# Altium schematic symbol library PCB_RP2040.SCHLIB: 17 symbols
Pins are listed as number, name and electrical type; pins without a type are passive.

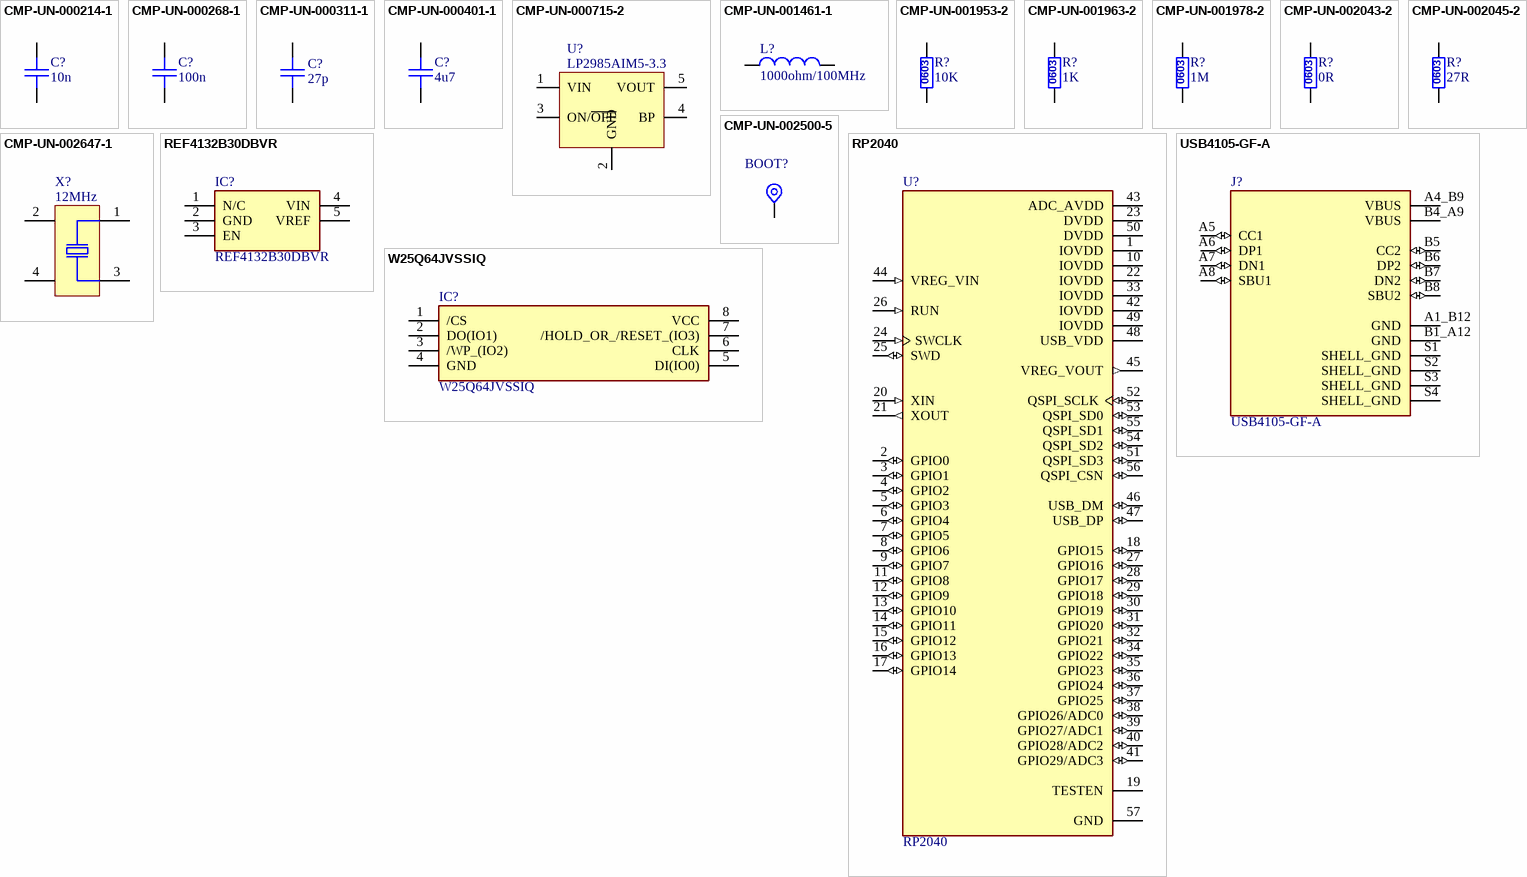
[diagram p0: symbols CMP-UN-000214-1 to W25Q64JVSSIQ]

## CMP-UN-000214-1
designator C?, comment 10n
Ceramic Capacitor X7R; Manufacturer: VISHAY; Part Number: 10n/50V X7R C0603; Manufacturer: Kyocera AVX; Manufacturer Part Number: 06035C103JAT2A; SMD/THD: SMD; Main: Capacitors; Status: A; Stock number: 10002497; Category: Capacitors CERA SMD; Value: 10n; Manufacturer Part Number: 10n/50V X7R C0603; Component Type: Capacitors
footprint C0603 (Chip Capacitor 0603)
footprint C0603M
pins: 1, 2

## CMP-UN-000268-1
designator C?, comment 100n
Ceramic Capacitor X7R; Manufacturer: VISHAY; Part Number: 100n/16V X7R C0603; Manufacturer: KEMET; Manufacturer Part Number: C0603C104K4RACAUTO; Main: Capacitors; SMD/THD: SMD; Value: 100n/16V; Stock number: 10003450; Category: Capacitors CERA SMD; Status: X; Manufacturer Part Number: 100n/16V X7R C0603; Component Type: Capacitors
footprint C0603 (Chip Capacitor 0603)
footprint C0603M
pins: 1, 2

## CMP-UN-000311-1
designator C?, comment 27p
Ceramic Capacitor NPO; Manufacturer: VISHAY; Part Number: 22p/50V NPO C0603; Manufacturer: Multicomp; Manufacturer Part Number: MC0603N220J500CT; Main: Capacitors; SMD/THD: SMD; Value: 22p; Stock number: 10004609; Status: A; Category: Capacitors CERA SMD; Manufacturer Part Number: 22p/50V NPO C0603; Component Type: Capacitors
footprint C0603 (Chip Capacitor 0603)
footprint C0603M
pins: 1, 2

## CMP-UN-000401-1
designator C?, comment 4u7
Ceramic Capacitor X5R; Part Number: GRM188R60J475KE19J; Manufacturer: Murata; Manufacturer Part Number: GRM188R60J475KE19D; Value: 4u7/6,3V; SMD/THD: SMD; Main: Capacitors; Category: Capacitors CERA SMD; Stock number: 10006168; Status: T; ComponentLink1URL: http://datasheet.octopart.com/GRM188R60J475KE19J-Murata-datasheet-14401031.pdf; ComponentLink1Description: Datasheet; Manufacturer Part Number: GRM188R60J475KE19J; Component Type: Capacitors
footprint C0603 (Chip Capacitor 0603)
footprint C0603M
pins: 1, 2

## CMP-UN-000715-2
designator U?, comment LP2985AIM5-3.3
150-mA , Low-Dropout Regulator; Manufacturer: Texas Instruments; Part Number: LP2985AIM5-3.3/NOPB; SMD/THD: SMD; Main: IC's; Value: LP2985AIM5-3.3; Category: Voltage Regulators; Stock number: 10006099; ComponentLink1Description: Datasheet; Status: N; ComponentLink1URL: http://www.farnell.com/datasheets/1972829.pdf; Manufacturer Part Number: LP2985AIM5-3.3/NOPB; Component Type: IC's
footprint SOT23-5 (0,95 rozteè, 0,4mm mezera, 2.9x1,6mm)
pins: 1 VIN (power), 2 GND (power), 3 ON/~{OFF}, 4 BP, 5 VOUT (power)

## CMP-UN-001461-1
designator L?, comment 1000ohm/100MHz
Ferrite Bead (10 to 200MHz) 0.5A; Manufacturer: TDK; Part Number: MMZ2012R102A; Main: Inductors; SMD/THD: SMD; ComponentLink1Description: Datasheet; Category: Ferrite Beads; ComponentLink1URL: http://www.farnell.com/datasheets/84901.pdf; Value: 1000ohm/100MHz; Status: A; Stock number: 10005111; Manufacturer Part Number: MMZ2012R102A; Component Type: Inductors
footprint L0805M (Chip inductor 0805)
pins: 1, 2

## CMP-UN-001953-2
designator R?, comment 10K
Resistor 1%, 0.1W, 75V; Part Number: 10K R0603; Manufacturer: VISHAY; Manufacturer Part Number: CRCW060310K0FKEA; Manufacturer: Vishay Semiconductors; Manufacturer Part Number: CRCW060310K0FKEAC; Main: Resistors; SMD/THD: SMD; Stock number: 10004622; Value: 10K; Category: Resistors SMD; Status: A; Manufacturer Part Number: 10K R0603; Manufacturer: Vishay; Component Type: Resistors
footprint R0603 (Chip Resistor 0603)
pins: 1, 2
text: 0603

## CMP-UN-001963-2
designator R?, comment 1K
Resistor 1%, 0.1W, 75V; Manufacturer: VISHAY; Part Number: 1K R0603; Manufacturer: Vishay Dale; Manufacturer Part Number: CRCW06031K00FKEA; SMD/THD: SMD; Main: Resistors; Value: 1K; Status: A; Category: Resistors SMD; Stock number: 10004641; Manufacturer Part Number: 1K R0603; Component Type: Resistors
footprint R0603 (Chip Resistor 0603)
pins: 1, 2
text: 0603

## CMP-UN-001978-2
designator R?, comment 1M
Resistor 1%, 0.1W, 75V; Manufacturer: VISHAY; Part Number: 1M0 R0603; SMD/THD: SMD; Main: Resistors; Stock number: 10004745; Status: A; Category: Resistors SMD; Value: 1M; Manufacturer Part Number: 1M0 R0603; Component Type: Resistors
footprint R0603 (Chip Resistor 0603)
pins: 1, 2
text: 0603

## CMP-UN-002043-2
designator R?, comment 0R
Resistor 1%, 0.1W, 75V; Part Number: 0R R0603; Manufacturer: VISHAY; Manufacturer Part Number: CRCW06030000ZSTA; Manufacturer Part Number: CRCW06030000Z0EA; Manufacturer Part Number: CRCW06030000Z0TABC; SMD/THD: SMD; Main: Resistors; Stock number: 10005433; Value: 0R; Category: Resistors SMD; Status: A; Manufacturer: Vishay; Manufacturer Part Number: 0R R0603; Component Type: Resistors
footprint R0603 (Chip Resistor 0603)
pins: 1, 2
text: 0603

## CMP-UN-002045-2
designator R?, comment 27R
Resistor 1%, 0.1W, 75V; Manufacturer: YAGEO (PHYCOMP); Part Number: 27R R0603; Manufacturer: Yageo; Manufacturer Part Number: RC0603FR-0727RL; SMD/THD: SMD; Main: Resistors; Category: Resistors SMD; Value: 27R; Status: A; Stock number: 10005475; Manufacturer Part Number: 27R R0603; Component Type: Resistors
footprint R0603 (Chip Resistor 0603)
pins: 1, 2
text: 0603

## CMP-UN-002500-5
designator BOOT?, comment TP  (value not drawn)  (no BOM)
Test Point; Main: Mechanical; Category: Pads_Pins_Measure_Points; Stock number: --------; Component Type: Mechanical
footprint Pad0.6mm (Pad (neosazuje se))
footprint Pad 1mm SMD (Pad (neosazuje se))
pins: 1

## CMP-UN-002647-1
designator X?, comment 12MHz
Crystal Resonator; Manufacturer: Geyer; Part Number: 12.000MHz KX-9A; Main: Crystals; Category: Crystals; Value: 12MHz; Manufacturer Part Number: 12.000MHz KX-9A; Component Type: Crystals & Oscillators
footprint XTAL_SMD_5032_4PIN
pins: 1 Osc1, 2 Add2, 3 Osc3, 4 Add4

## REF4132B30DBVR
designator IC?
Integrated Circuit; Manufacturer_Name: Texas Instruments; Datasheet Link: https://www.ti.com/lit/ds/symlink/ref4132.pdf?ts=1621337373445&ref_url=https%253A%252F%252Fwww.ti.com%252Fstore%252Fti%252Fen%252Fp%252Fproduct%252F%253Fp%253DREF4132B33DBVR; Height: 1.45mm; Manufacturer_Part_Number: REF4132B30DBVR
footprint SOT95P280X145-5N
pins: 1 N/C, 2 GND, 3 EN, 4 VIN, 5 VREF

## RP2040
designator U?
RP2040 Raspberry Pi Pico - ARMÂ® CortexÂ®-M0+ MCU 32-Bit Embedded Evaluation Board; Price: None; SnapEDA_Link: https://www.snapeda.com/parts/RP2040/Raspberry%20Pi/view-part/5800506/?ref=snap; Purchase-URL: https://pricing.snapeda.com/search/part/RP2040/?ref=eda; Check_prices: https://www.snapeda.com/parts/RP2040/Raspberry%20Pi/view-part/5800506/?ref=eda; MF: Raspberry Pi; Value: *; MP: RP2040; Package: Package; Availability: In Stock
footprint QFN40P700X700X90-57N
pins: 1 IOVDD (power), 2 GPIO0 (io), 3 GPIO1 (io), 4 GPIO2 (io), 5 GPIO3 (io), 6 GPIO4 (io), 7 GPIO5 (io), 8 GPIO6 (io), 9 GPIO7 (io), 10 IOVDD (power), 11 GPIO8 (io), 12 GPIO9 (io), 13 GPIO10 (io), 14 GPIO11 (io), 15 GPIO12 (io), 16 GPIO13 (io), 17 GPIO14 (io), 18 GPIO15 (io), 19 TESTEN, 20 XIN (in), 21 XOUT (out), 22 IOVDD (power), 23 DVDD (power), 24 SWCLK (in), 25 SWD (io), 26 RUN (in), 27 GPIO16 (io), 28 GPIO17 (io), 29 GPIO18 (io), 30 GPIO19 (io), 31 GPIO20 (io), 32 GPIO21 (io), 33 IOVDD (power), 34 GPIO22 (io), 35 GPIO23 (io), 36 GPIO24 (io), 37 GPIO25 (io), 38 GPIO26/ADC0 (io), 39 GPIO27/ADC1 (io), 40 GPIO28/ADC2 (io), 41 GPIO29/ADC3 (io), 42 IOVDD (power), 43 ADC_AVDD (power), 44 VREG_VIN (in), 45 VREG_VOUT (out), 46 USB_DM (io), 47 USB_DP (io), 48 USB_VDD (power), 49 IOVDD (power), 50 DVDD (power), 51 QSPI_SD3 (io), 52 QSPI_SCLK (io), 53 QSPI_SD0 (io), 54 QSPI_SD2 (io), 55 QSPI_SD1 (io), 56 QSPI_CSN (io), 57 GND (power)

## USB4105-GF-A
designator J?
USB-C (USB TYPE-C) USB 2.0 Receptacle Connector 24 (16+8 Dummy) Position Surface Mount, Right Angle; Through Hole; MF: GCT; Price: None; Value: *; MP: USB4105-GF-A; Package: None; Purchase-URL: https://pricing.snapeda.com/search/part/USB4105-GF-A/?ref=eda; SnapEDA_Link: https://www.snapeda.com/parts/USB4105-GF-A/Global%20Connector%20Technology/view-part/4423780/?ref=snap; Check_prices: https://www.snapeda.com/parts/USB4105-GF-A/Global%20Connector%20Technology/view-part/4423780/?ref=eda; Availability: Warning
footprint GCT_USB4105-GF-A
pins: A1_B12 GND (power), A4_B9 VBUS (power), A5 CC1 (io), A6 DP1 (io), A7 DN1 (io), A8 SBU1 (io), B1_A12 GND (power), B4_A9 VBUS (power), B5 CC2 (io), B6 DP2 (io), B7 DN2 (io), B8 SBU2 (io), S1 SHELL_GND (power), S2 SHELL_GND (power), S3 SHELL_GND (power), S4 SHELL_GND (power)

## W25Q64JVSSIQ
designator IC?
Integrated Circuit; Manufacturer_Name: Winbond; Datasheet Link: https://componentsearchengine.com//W25Q64JVSSIQ.pdf; Height: 2.16mm; Mouser2 Part Number: 454-W25Q64JVSSIQ; Mouser2 Price/Stock: https://www.mouser.com/Search/Refine.aspx?Keyword=454-W25Q64JVSSIQ; Manufacturer_Part_Number: W25Q64JVSSIQ
footprint SOIC127P790X216-8N
pins: 1 /CS, 2 DO(IO1), 3 /WP_(IO2), 4 GND, 5 DI(IO0), 6 CLK, 7 /HOLD_OR_/RESET_(IO3), 8 VCC